# EAGLE library part TL431 (library ArdDisp)
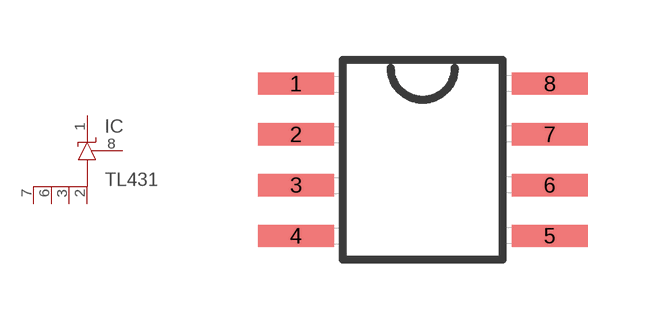
[diagram p21: symbol with the pads of SO08; footprint SO08]

Designator prefix IC

## TL431-SO08  [SO08]
1  K  pas
2  A1  pas
3  A2  pas
6  A3  pas
7  A4  pas
8  REF  pas

## Footprint SO08 (pad centres in mm)
Pady jsou v mil/12.5 rozmery nejsou overeny se skutecnosti Hořa
smd 1.905 x 0.559: 1 -3.175,1.905; 2 -3.175,0.635; 3 -3.175,-0.635; 4 -3.175,-1.905; 5 3.175,-1.905; 6 3.175,-0.635; 7 3.175,0.635; 8 3.175,1.905